# Altium footprint library PMEG4010CPA.PcbLib: 2 footprints
Each footprint in its own frame and in the unit in brackets; x right, y up, seen from the top. Pads: shape width x height; smd on the part's side, far side on the other; paste and mask are expansions set on the pad; w line width, h text height; cw(c..) or ccw(c..) is an arc to the next point about the centre after c.
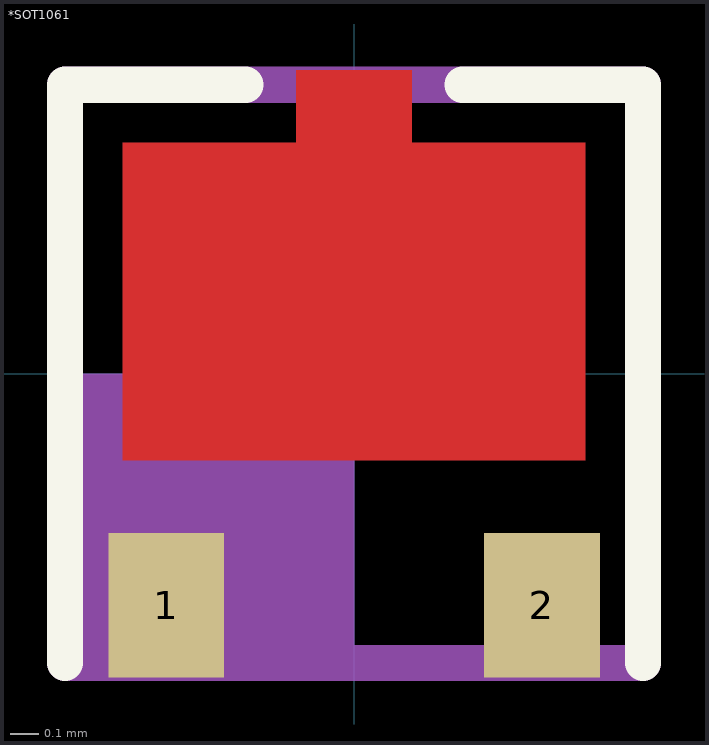
[diagram p0: the footprints below, top view; thin cyan lines are the x and y axes]

## *SOT1061 [mm]
pads (3):
  rect 0.4x0.5 smd: 1(-0.65,-0.8) 2(0.65,-0.8)
  rect 0x0 all layers, no hole: 3(0,0.875)
Top Layer:
  region: 0.8,-0.3 -0.8,-0.3 -0.8,0.8 -0.2,0.8 -0.2,1.05 0.2,1.05 0.2,0.8 0.8,0.8
Top Overlay:
  lines w0.125: -1,-1 -1,1 -0.375,1 ; 0.375,1 1,1 1,-1
Top Paste:
  region: 0.8,-0.3 -0.8,-0.3 -0.8,0.8 -0.2,0.8 -0.2,1.05 0.2,1.05 0.2,0.8 0.8,0.8
Top Solder:
  region: 0.85,-0.35 -0.85,-0.35 -0.85,0.85 -0.25,0.85 -0.25,1.1 0.25,1.1 0.25,0.85 0.85,0.85
  region: 0.9,-1.101 0.401,-1.101 0.401,-0.5 0.9,-0.5
  region: -0.4,-1.102 -0.901,-1.102 -0.901,-0.5 -0.4,-0.5
Mechanical 4:
  region: -1,0 0,0 0,-1 -1,-1
  region: -1,0 0,0 0,-1 -1,-1
  lines w0.125: -1,-1 -1,1 ; -1,-1 1,-1 ; -1,-1 -1,1 ; -1,-1 1,-1 ; -1,1 1,1 ; -1,1 1,1 ; 1,-1 1,0.9 ; 1,-1 1,0.9 ; 1,0.9 1,1 ; 1,0.9 1,1

## PCBComponent_1 [mm]